# EAGLE library part ULT (library DCDC-MURATA)
http://power.murata.com/data/power/ult.pdf
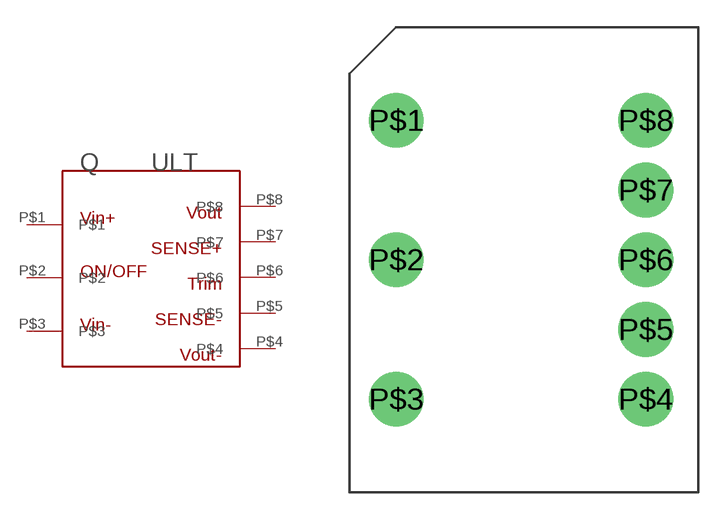
[diagram p1: symbol with the pads of ULT; footprint ULT]

Designator prefix Q

## ULT  [ULT]
P$1  P$1
P$2  P$2
P$3  P$3
P$4  P$4
P$5  P$5
P$6  P$6
P$7  P$7
P$8  P$8

## Footprint ULT (pad centres in mm)
drill 2: P$1 2.54,20.32; P$2 2.54,12.7; P$3 2.54,5.08; P$4 16.18,5.08; P$5 16.18,8.89; P$6 16.18,12.7; P$7 16.18,16.51; P$8 16.18,20.32